# EAGLE library part BLUE_PILL (library CRS_EAGLE_Lib)
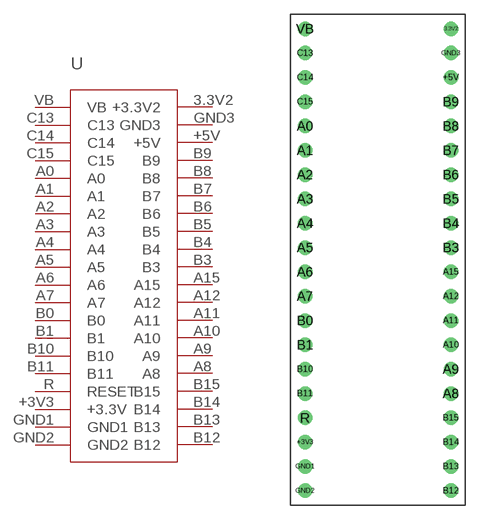
[diagram p0: symbol with the pads of BLUEPILL; footprint BLUEPILL]

Designator prefix -

## BLUE_PILL  [BLUEPILL]
3.3V2  +3.3V2
+3V3  +3.3V
+5V  +5V
A0  A0
A1  A1
A2  A2
A3  A3
A4  A4
A5  A5
A6  A6
A7  A7
A8  A8
A9  A9
A10  A10
A11  A11
A12  A12
A15  A15
B0  B0
B1  B1
B3  B3
B4  B4
B5  B5
B6  B6
B7  B7
B8  B8
B9  B9
B10  B10
B11  B11
B12  B12
B13  B13
B14  B14
B15  B15
C13  C13
C14  C14
C15  C15
GND1  GND1
GND2  GND2
GND3  GND3
R  RESET
VB  VB

## Footprint BLUEPILL (pad centres in mm)
drill 1: 3.3V2 7.24,24; +3V3 -8,-19.18; +5V 7.24,18.92; A0 -8,13.84; A1 -8,11.3; A2 -8,8.76; A3 -8,6.22; A4 -8,3.68; A5 -8,1.14; A6 -8,-1.4; A7 -8,-3.94; A8 7.24,-14.1; A9 7.24,-11.56; A10 7.24,-9.02; A11 7.24,-6.48; A12 7.24,-3.94; A15 7.24,-1.4; B0 -8,-6.48; B1 -8,-9.02; B3 7.24,1.14; B4 7.24,3.68; B5 7.24,6.22; B6 7.24,8.76; B7 7.24,11.3; B8 7.24,13.84; B9 7.24,16.38; B10 -8,-11.56; B11 -8,-14.1; B12 7.24,-24.26; B13 7.24,-21.72; B14 7.24,-19.18; B15 7.24,-16.64; C13 -8,21.46; C14 -8,18.92; C15 -8,16.38; GND1 -8,-21.72; GND2 -8,-24.26; GND3 7.24,21.46; R -8,-16.64; VB -8,24